# Altium integrated library Infineon RF & Wireless Control.IntLib: 329 symbols (part 3 of 11)
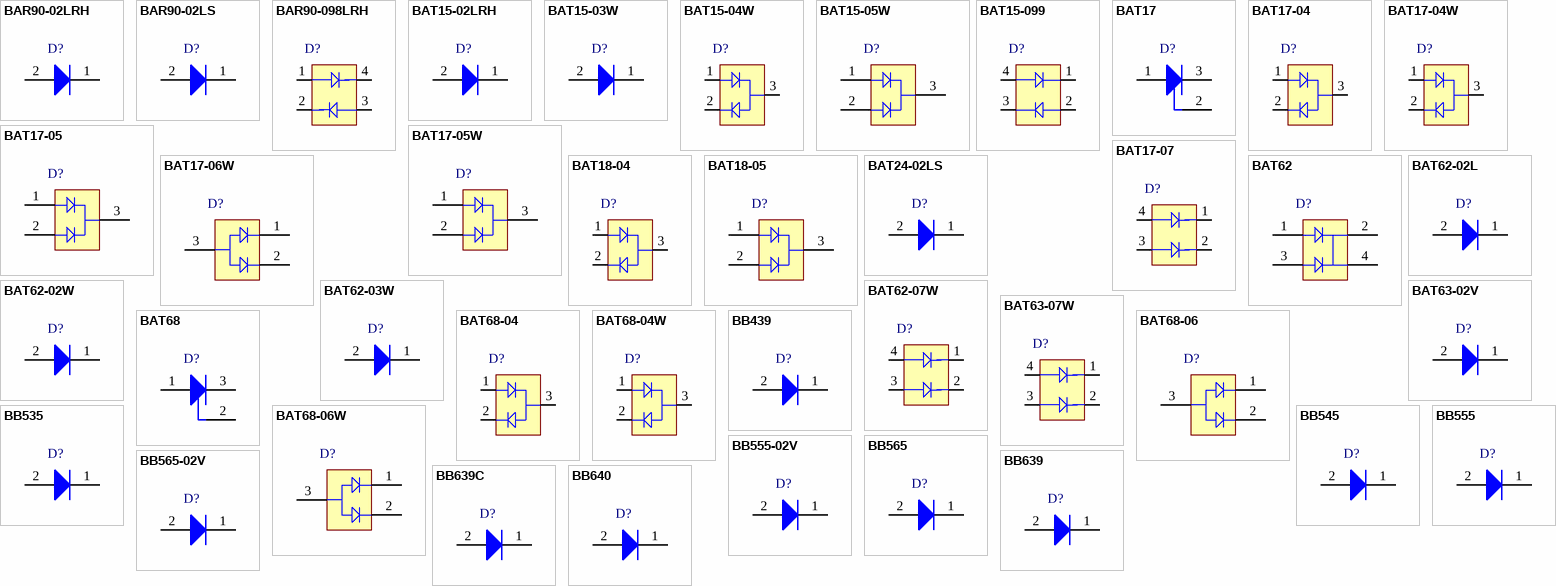
[diagram p11: symbols BAR90-02LRH to BB640]

## BB640
designator D?
Single Silicon Variable Capacitance Diode, 20 mA IF Max, SOD323, Green; Manufacturer: Infineon; PartNumber: BB640; CT / CT: 16.6 (2/25V); CT1 (typ): 69 pF; CT2 (typ): 54.5 pF; Green: yes; IF (max): 20 mA; DatasheetVersion: Jun-2011; PackageReference: SOD323; PackageDescription: 2-Pin Small Outline Diode Package, 1.25 x 1.7 mm Body; Supplier 1: Mouser; Supplier Part Number 1: N/A; Configuration: Single; Mounting Technology: Surface Mount; ComponentLink1Description: Manufacturer URL; ComponentLink1URL: http://www.infineon.com/; ComponentLink2Description: Datasheet; ComponentLink2URL: http://www.infineon.com/dgdl/bb640series.pdf?folderId=db3a304313d846880113d98def1d0130&fileId=db3a304313d846880113d9d5b10c0172&location=en.Products.RF.RF_Varactor_Diodes.UHF_and_VHF_Tuner.DATASHEET.bb640series.pdf; ComponentLink3Description: Package Specification; ComponentLink3URL: http://www.infineon.com/dgdl/SOD323-Package_Overview.pdf?folderId=db3a30431936bc4b011952aab84f3bbe&fileId=db3a30431936bc4b011952beed653be3
footprint INF-SOD323_V (SOD, 2-Leads, Body 1.7x1.25 mm)
pins: 1 K, 2 A

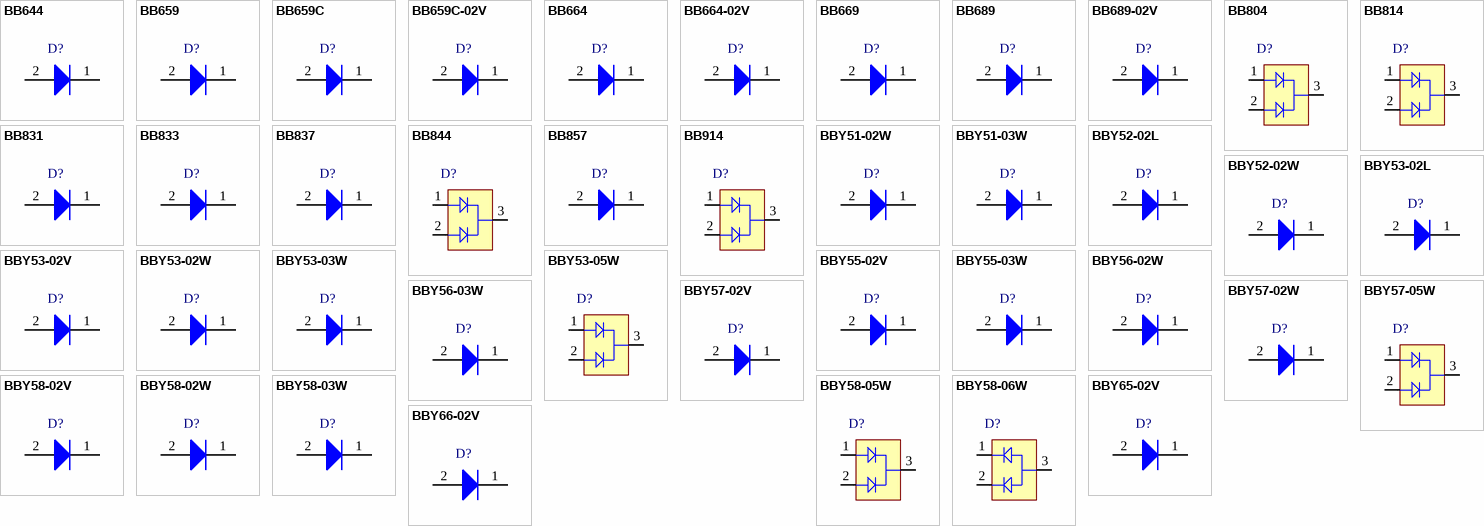
[diagram p2: symbols BB644 to BBY66-02V]

## BB644
designator D?
Single Silicon Variable Capacitance Diode, 20 mA IF Max, SOD323, Green; Manufacturer: Infineon; PartNumber: BB644; CT / CT: 11.8 (2/25V); CT1 (typ): 41.8 pF; CT2 (typ): 31.85 pF; Green: yes; IF (max): 20 mA; DatasheetVersion: Jun-2011; PackageReference: SOD323; PackageDescription: 2-Pin Small Outline Diode Package, 1.25 x 1.7 mm Body; Supplier 1: Mouser; Supplier Part Number 1: N/A; Configuration: Single; Mounting Technology: Surface Mount; ComponentLink1Description: Manufacturer URL; ComponentLink1URL: http://www.infineon.com/; ComponentLink2Description: Datasheet; ComponentLink2URL: http://www.infineon.com/dgdl/bb644_bb664series.pdf?folderId=db3a304313d846880113d98def1d0130&fileId=db3a304313d846880113d9db6c720176&location=en.Products.RF.RF_Varactor_Diodes.UHF_and_VHF_Tuner.DATASHEET.bb644_bb664series.pdf; ComponentLink3Description: Package Specification; ComponentLink3URL: http://www.infineon.com/dgdl/SOD323-Package_Overview.pdf?folderId=db3a30431936bc4b011952aab84f3bbe&fileId=db3a30431936bc4b011952beed653be3
footprint INF-SOD323_V (SOD, 2-Leads, Body 1.7x1.25 mm)
pins: 1 K, 2 A

## BB659
designator D?
Single Silicon Variable Capacitance Diode, 20 mA IF Max, SCD80, Green; Manufacturer: Infineon; PartNumber: BB659; CT / CT: 14.7(1/28V); CT1 (typ): 38.3 pF; CT2 (typ): 29.75 pF; Green: yes; IF (max): 20 mA; DatasheetVersion: Jun-2011; PackageReference: SCD80; PackageDescription: 2-Pin Semiconductor Diode Package, 0.8 x 1.3 mm Body; Supplier 1: Mouser; Supplier Part Number 1: N/A; Configuration: Single; Halogen-free: yes; Mounting Technology: Surface Mount; ComponentLink1Description: Manufacturer URL; ComponentLink1URL: http://www.infineon.com/; ComponentLink2Description: Datasheet; ComponentLink2URL: http://www.infineon.com/dgdl/bb639_bb659series.pdf?folderId=db3a304313d846880113d98def1d0130&fileId=db3a304313d846880113d9bc2d2e015e&location=en.Products.RF.RF_Varactor_Diodes.UHF_and_VHF_Tuner.DATASHEET.bb639_bb659series.pdf; ComponentLink3Description: Package Specification; ComponentLink3URL: http://www.infineon.com/dgdl/SCD80-Package_Overview.pdf?folderId=db3a30431936bc4b0119526bd5c83b5c&fileId=db3a30431936bc4b0119528065a43b7a
footprint INF-SCD80_V (SCD80, 2-Leads, Body 0.8x1.3 mm)
pins: 1 K, 2 A

## BB659C
designator D?
Single Silicon Variable Capacitance Diode, 20 mA IF Max, SCD80, Green; Manufacturer: Infineon; PartNumber: BB659C; CT / CT: 15.3(1/28V); CT1 (typ): 39 pF; CT2 (typ): 30.2 pF; Green: yes; IF (max): 20 mA; DatasheetVersion: Jun-2011; PackageReference: SCD80; PackageDescription: 2-Pin Semiconductor Diode Package, 0.8 x 1.3 mm Body; Supplier 1: Mouser; Supplier Part Number 1: N/A; Configuration: Single; Halogen-free: yes; Mounting Technology: Surface Mount; ComponentLink1Description: Manufacturer URL; ComponentLink1URL: http://www.infineon.com/; ComponentLink2Description: Datasheet; ComponentLink2URL: http://www.infineon.com/dgdl/bb639c_bb659cseries.pdf?folderId=db3a304313d846880113d98def1d0130&fileId=db3a304313d846880113d9c5cacc0166&location=en.Products.RF.RF_Varactor_Diodes.UHF_and_VHF_Tuner.DATASHEET.bb639c_bb659cseries.pdf; ComponentLink3Description: Package Specification; ComponentLink3URL: http://www.infineon.com/dgdl/SCD80-Package_Overview.pdf?folderId=db3a30431936bc4b0119526bd5c83b5c&fileId=db3a30431936bc4b0119528065a43b7a
footprint INF-SCD80_V (SCD80, 2-Leads, Body 0.8x1.3 mm)
pins: 1 K, 2 A

## BB659C-02V
designator D?
Single Silicon Variable Capacitance Diode, 20 mA IF Max, SC79, Green; Manufacturer: Infineon; PartNumber: BB659C-02V; CT / CT: 15.3 (1/28V); CT1 (typ): 39 pF; CT2 (typ): 30.2 pF; Green: yes; IF (max): 20 mA; DatasheetVersion: Jun-2011; PackageReference: SC79; PackageDescription: 2-Pin Semiconductor Package, 0.8 x 1.2 mm Body; Supplier 1: Mouser; Supplier Part Number 1: N/A; Configuration: Single; Halogen-free: yes; Mounting Technology: Surface Mount; ComponentLink1Description: Manufacturer URL; ComponentLink1URL: http://www.infineon.com/; ComponentLink2Description: Datasheet; ComponentLink2URL: http://www.infineon.com/dgdl/bb639c_bb659cseries.pdf?folderId=db3a304313d846880113d98def1d0130&fileId=db3a304313d846880113d9c5cacc0166&location=en.Products.RF.RF_Varactor_Diodes.UHF_and_VHF_Tuner.DATASHEET.bb639c_bb659cseries.pdf; ComponentLink3Description: Package Specification; ComponentLink3URL: http://www.infineon.com/dgdl/SC79-Package_Overview.pdf?folderId=db3a30431936bc4b011951fbddb03b15&fileId=db3a30431936bc4b01195226fe583b41
footprint INF-SC79_V (SC79, 2-Leads, Body 1.2x0.8 mm)
pins: 1 K, 2 A

## BB664
designator D?
Single Silicon Variable Capacitance Diode, 20 mA IF Max, SCD80, Green; Manufacturer: Infineon; PartNumber: BB664; CT / CT: 11.8 (2/25V); CT1 (typ): 41.8 pF; CT2 (typ): 31.85 pF; Green: yes; IF (max): 20 mA; DatasheetVersion: Jun-2011; PackageReference: SCD80; PackageDescription: 2-Pin Semiconductor Diode Package, 0.8 x 1.3 mm Body; Supplier 1: Mouser; Supplier Part Number 1: N/A; Configuration: Single; Halogen-free: yes; Mounting Technology: Surface Mount; ComponentLink1Description: Manufacturer URL; ComponentLink1URL: http://www.infineon.com/; ComponentLink2Description: Datasheet; ComponentLink2URL: http://www.infineon.com/dgdl/bb644_bb664series.pdf?folderId=db3a304313d846880113d98def1d0130&fileId=db3a304313d846880113d9db6c720176&location=en.Products.RF.RF_Varactor_Diodes.UHF_and_VHF_Tuner.DATASHEET.bb644_bb664series.pdf; ComponentLink3Description: Package Specification; ComponentLink3URL: http://www.infineon.com/dgdl/SCD80-Package_Overview.pdf?folderId=db3a30431936bc4b0119526bd5c83b5c&fileId=db3a30431936bc4b0119528065a43b7a
footprint INF-SCD80_V (SCD80, 2-Leads, Body 0.8x1.3 mm)
pins: 1 K, 2 A

## BB664-02V
designator D?
Single Silicon Variable Capacitance Diode, 20 mA IF Max, SC79, Green; Manufacturer: Infineon; PartNumber: BB664-02V; CT / CT: 16.4 (1 / 28V); CT1 (typ): 41.8 pF; CT2 (typ): 31.85 pF; Green: yes; IF (max): 20 mA; DatasheetVersion: Jun-2011; PackageReference: SC79; PackageDescription: 2-Pin Semiconductor Package, 0.8 x 1.2 mm Body; Supplier 1: Mouser; Supplier Part Number 1: N/A; Configuration: Single; Halogen-free: yes; Mounting Technology: Surface Mount; ComponentLink1Description: Manufacturer URL; ComponentLink1URL: http://www.infineon.com/; ComponentLink2Description: Datasheet; ComponentLink2URL: http://www.infineon.com/dgdl/bb644_bb664series.pdf?folderId=db3a304313d846880113d98def1d0130&fileId=db3a304313d846880113d9db6c720176&location=en.Products.RF.RF_Varactor_Diodes.UHF_and_VHF_Tuner.DATASHEET.bb644_bb664series.pdf; ComponentLink3Description: Package Specification; ComponentLink3URL: http://www.infineon.com/dgdl/SC79-Package_Overview.pdf?folderId=db3a30431936bc4b011951fbddb03b15&fileId=db3a30431936bc4b01195226fe583b41
footprint INF-SC79_V (SC79, 2-Leads, Body 1.2x0.8 mm)
pins: 1 K, 2 A

## BB669
designator D?
Single Silicon Tuning Diode, 20 mA IF Max, SOD323, Green; Manufacturer: Infineon; PartNumber: BB669; CT / CT: 15.5 (2/25V); CT1 (typ): 56.5 pF; CT2 (typ): 43.4 pF; Green: yes; IF (max): 20 mA; DatasheetVersion: Jun-2011; PackageReference: SOD323; PackageDescription: 2-Pin Small Outline Diode Package, 1.25 x 1.7 mm Body; Supplier 1: Mouser; Supplier Part Number 1: N/A; Configuration: Single; Mounting Technology: Surface Mount; ComponentLink1Description: Manufacturer URL; ComponentLink1URL: http://www.infineon.com/; ComponentLink2Description: Datasheet; ComponentLink2URL: http://www.infineon.com/dgdl/bb669_bb689series.pdf?folderId=db3a304313d846880113d98def1d0130&fileId=db3a304313d846880113dd9db9820270&location=en.Products.RF.RF_Varactor_Diodes.UHF_and_VHF_Tuner.DATASHEET.bb669_bb689series.pdf; ComponentLink3Description: Package Specification; ComponentLink3URL: http://www.infineon.com/dgdl/SOD323-Package_Overview.pdf?folderId=db3a30431936bc4b011952aab84f3bbe&fileId=db3a30431936bc4b011952beed653be3
footprint INF-SOD323_V (SOD, 2-Leads, Body 1.7x1.25 mm)
pins: 1 K, 2 A

## BB689
designator D?
Single Silicon Tuning Diode, 20 mA IF Max, SCD80, Green; Manufacturer: Infineon; PartNumber: BB689; CT / CT: 15.5 (2/25V); CT1 (typ): 56.5 pF; CT2 (typ): 43.4 pF; Green: yes; IF (max): 20 mA; DatasheetVersion: Jun-2011; PackageReference: SCD80; PackageDescription: 2-Pin Semiconductor Diode Package, 0.8 x 1.3 mm Body; Supplier 1: Mouser; Supplier Part Number 1: N/A; Configuration: Single; Halogen-free: yes; Mounting Technology: Surface Mount; ComponentLink1Description: Manufacturer URL; ComponentLink1URL: http://www.infineon.com/; ComponentLink2Description: Datasheet; ComponentLink2URL: http://www.infineon.com/dgdl/bb669_bb689series.pdf?folderId=db3a304313d846880113d98def1d0130&fileId=db3a304313d846880113dd9db9820270&location=en.Products.RF.RF_Varactor_Diodes.UHF_and_VHF_Tuner.DATASHEET.bb669_bb689series.pdf; ComponentLink3Description: Package Specification; ComponentLink3URL: http://www.infineon.com/dgdl/SCD80-Package_Overview.pdf?folderId=db3a30431936bc4b0119526bd5c83b5c&fileId=db3a30431936bc4b0119528065a43b7a
footprint INF-SCD80_V (SCD80, 2-Leads, Body 0.8x1.3 mm)
pins: 1 K, 2 A

## BB689-02V
designator D?
Single Silicon Tuning Diode, 20 mA IF Max, SC79, Green; Manufacturer: Infineon; PartNumber: BB689-02V; CT / CT: 15.5 (2/25V); CT1 (typ): 56.5 pF; CT2 (typ): 43.4 pF; Green: yes; IF (max): 20 mA; DatasheetVersion: Jun-2011; PackageReference: SC79; PackageDescription: 2-Pin Semiconductor Package, 0.8 x 1.2 mm Body; Supplier 1: Mouser; Supplier Part Number 1: N/A; Configuration: Single; Halogen-free: yes; Mounting Technology: Surface Mount; ComponentLink1Description: Manufacturer URL; ComponentLink1URL: http://www.infineon.com/; ComponentLink2Description: Datasheet; ComponentLink2URL: http://www.infineon.com/dgdl/bb669_bb689series.pdf?folderId=db3a304313d846880113d98def1d0130&fileId=db3a304313d846880113dd9db9820270&location=en.Products.RF.RF_Varactor_Diodes.UHF_and_VHF_Tuner.DATASHEET.bb669_bb689series.pdf; ComponentLink3Description: Package Specification; ComponentLink3URL: http://www.infineon.com/dgdl/SC79-Package_Overview.pdf?folderId=db3a30431936bc4b011951fbddb03b15&fileId=db3a30431936bc4b01195226fe583b41
footprint INF-SC79_V (SC79, 2-Leads, Body 1.2x0.8 mm)
pins: 1 K, 2 A

## BB804
designator D?
Dual Silicon Variable Capacitance Diode, 50 mA IF Max, SOT23, Green; Manufacturer: Infineon; PartNumber: BB804; CT (max): 47.5 pF; CT / CT: 1.71 (2/8V); CT2 (typ): 27.9 pF; Green: yes; IF (max): 50 mA; DatasheetVersion: Jun-2011; PackageReference: SOT23; PackageDescription: 3-Pin Small Outline Transistor Package, 1.3 x 2.9 mm Body, 0.95 mm Pitch; Supplier 1: Mouser; Supplier Part Number 1: N/A; Configuration: Dual; CT1 (typ): 47.5 pF; Mounting Technology: Surface Mount; ComponentLink1Description: Manufacturer URL; ComponentLink1URL: http://www.infineon.com/; ComponentLink2Description: Datasheet; ComponentLink2URL: http://www.infineon.com/dgdl/bb804series.pdf?folderId=db3a30431400ef680114267375cf0615&fileId=db3a30431400ef6801142674e18e061a&location=en.Products.RF.RF_Varactor_Diodes.FM_Tuner.DATASHEET.bb804series.pdf; ComponentLink3Description: Package Specification; ComponentLink3URL: http://www.infineon.com/dgdl/SOT23-Package_Overview.pdf?folderId=db3a30431936bc4b0119532290053c66&fileId=db3a30431936bc4b0119533468123c85
footprint INF-SOT23_N (SOT23, 3-Leads, Body 2.9x1.3 mm, Pitch 0.95 mm, IPC Medium Density)
footprint INF-SOT23_L (SOT23, 3-Leads, Body 2.9x1.3 mm, Pitch 0.95 mm, IPC High Density)
footprint INF-SOT23_M (SOT23, 3-Leads, Body 2.9x1.3 mm, Pitch 0.95 mm, IPC Low Density)
pins: 1 A1, 2 A2, 3 K

## BB814
designator D?
Dual Silicon Variable Capacitance Diode, 50 mA IF Max, SOT23, Green; Manufacturer: Infineon; PartNumber: BB814; CT (max): 44.75 pF; CT / CT: 2.15 (2/8V); CT2 (typ): 20.8 pF; Green: yes; IF (max): 50 mA; DatasheetVersion: Jun-2011; PackageReference: SOT23; PackageDescription: 3-Pin Small Outline Transistor Package, 1.3 x 2.9 mm Body, 0.95 mm Pitch; Supplier 1: Mouser; Supplier Part Number 1: N/A; Configuration: Dual; CT1 (typ): 44.75 pF; Mounting Technology: Surface Mount; ComponentLink1Description: Manufacturer URL; ComponentLink1URL: http://www.infineon.com/; ComponentLink2Description: Datasheet; ComponentLink2URL: http://www.infineon.com/dgdl/bb814series.pdf?folderId=db3a30431400ef680114267375cf0615&fileId=db3a304314dca389011527effe3e11da&location=en.Products.RF.RF_Varactor_Diodes.FM_Tuner.DATASHEET.bb814series.pdf; ComponentLink3Description: Package Specification; ComponentLink3URL: http://www.infineon.com/dgdl/SOT23-Package_Overview.pdf?folderId=db3a30431936bc4b0119532290053c66&fileId=db3a30431936bc4b0119533468123c85
footprint INF-SOT23_N (SOT23, 3-Leads, Body 2.9x1.3 mm, Pitch 0.95 mm, IPC Medium Density)
footprint INF-SOT23_L (SOT23, 3-Leads, Body 2.9x1.3 mm, Pitch 0.95 mm, IPC High Density)
footprint INF-SOT23_M (SOT23, 3-Leads, Body 2.9x1.3 mm, Pitch 0.95 mm, IPC Low Density)
pins: 1 A1, 2 A2, 3 K

## BB831
designator D?
Single Silicon Variable Capacitance Diode, 20 mA IF Max, SOD323, Green; Manufacturer: Infineon; PartNumber: BB831; CT / CT: 8.6 (1/28V); CT1 (typ): 8.8 pF; Green: yes; IF (max): 20 mA; DatasheetVersion: Jun-2011; PackageReference: SOD323; PackageDescription: 2-Pin Small Outline Diode Package, 1.25 x 1.7 mm Body; Supplier 1: Mouser; Supplier Part Number 1: N/A; Configuration: Single; Mounting Technology: Surface Mount; ComponentLink1Description: Manufacturer URL; ComponentLink1URL: http://www.infineon.com/; ComponentLink2Description: Datasheet; ComponentLink2URL: http://www.infineon.com/dgdl/bb831series.pdf?folderId=db3a304313d846880113d94414f400fc&fileId=db3a304313d846880113d94727a300ff&location=en.Products.RF.RF_Varactor_Diodes.SAT_Tuner.DATASHEET.bb831series.pdf; ComponentLink3Description: Package Specification; ComponentLink3URL: http://www.infineon.com/dgdl/SOD323-Package_Overview.pdf?folderId=db3a30431936bc4b011952aab84f3bbe&fileId=db3a30431936bc4b011952beed653be3
footprint INF-SOD323_V (SOD, 2-Leads, Body 1.7x1.25 mm)
pins: 1 K, 2 A

## BB833
designator D?
Single Silicon Tuning Diode, 20 mA IF Max, SOD323, Green; Manufacturer: Infineon; PartNumber: BB833; CT / CT: 12.4 (1/28V); CT1 (typ): 9.3 pF; Green: yes; IF (max): 20 mA; DatasheetVersion: Jun-2011; PackageReference: SOD323; PackageDescription: 2-Pin Small Outline Diode Package, 1.25 x 1.7 mm Body; Supplier 1: Mouser; Supplier Part Number 1: N/A; Configuration: Single; Mounting Technology: Surface Mount; ComponentLink1Description: Manufacturer URL; ComponentLink1URL: http://www.infineon.com/; ComponentLink2Description: Datasheet; ComponentLink2URL: http://www.infineon.com/dgdl/bb833series.pdf?folderId=db3a304313d846880113d94414f400fc&fileId=db3a304313d846880113d969a38b0112&location=en.Products.RF.RF_Varactor_Diodes.SAT_Tuner.DATASHEET.bb833series.pdf; ComponentLink3Description: Package Specification; ComponentLink3URL: http://www.infineon.com/dgdl/SOD323-Package_Overview.pdf?folderId=db3a30431936bc4b011952aab84f3bbe&fileId=db3a30431936bc4b011952beed653be3
footprint INF-SOD323_V (SOD, 2-Leads, Body 1.7x1.25 mm)
pins: 1 K, 2 A

## BB837
designator D?
Single Silicon Tuning Diode, 20 mA IF Max, SOD323, Green; Manufacturer: Infineon; PartNumber: BB837; CT / CT: 12.7 (1/28V); CT1 (typ): 6.6 pF; Green: yes; IF (max): 20 mA; DatasheetVersion: Jun-2011; PackageReference: SOD323; PackageDescription: 2-Pin Small Outline Diode Package, 1.25 x 1.7 mm Body; Supplier 1: Mouser; Supplier Part Number 1: N/A; Configuration: Single; Mounting Technology: Surface Mount; ComponentLink1Description: Manufacturer URL; ComponentLink1URL: http://www.infineon.com/; ComponentLink2Description: Datasheet; ComponentLink2URL: http://www.infineon.com/dgdl/bb837_bb857series.pdf?folderId=db3a304313d846880113d94414f400fc&fileId=db3a304313d846880113d97339a9011a&location=en.Products.RF.RF_Varactor_Diodes.SAT_Tuner.DATASHEET.bb837_bb857series.pdf; ComponentLink3Description: Package Specification; ComponentLink3URL: http://www.infineon.com/dgdl/SOD323-Package_Overview.pdf?folderId=db3a30431936bc4b011952aab84f3bbe&fileId=db3a30431936bc4b011952beed653be3
footprint INF-SOD323_V (SOD, 2-Leads, Body 1.7x1.25 mm)
pins: 1 K, 2 A

## BB844
designator D?
Single Silicon Variable Capacitance Diode, 50 mA IF Max, SOT23, Green; Manufacturer: Infineon; PartNumber: BB844; CT (max): 43.75 pF; CT / CT: 3.8 (2/8V); CT2 (typ): 11.7 pF; Green: yes; IF (max): 50 mA; DatasheetVersion: Jun-2011; PackageReference: SOT23; PackageDescription: 3-Pin Small Outline Transistor Package, 1.3 x 2.9 mm Body, 0.95 mm Pitch; Supplier 1: Mouser; Supplier Part Number 1: N/A; Configuration: Single; CT1 (typ): 43.75 pF; Mounting Technology: Surface Mount; ComponentLink1Description: Manufacturer URL; ComponentLink1URL: http://www.infineon.com/; ComponentLink2Description: Datasheet; ComponentLink2URL: http://www.infineon.com/dgdl/bb844series.pdf?folderId=db3a30431400ef680114267375cf0615&fileId=db3a30431be39b97011be4a058c80036&location=en.Products.RF.RF_Varactor_Diodes.FM_Tuner.DATASHEET.bb844series.pdf; ComponentLink3Description: Package Specification; ComponentLink3URL: http://www.infineon.com/dgdl/SOT23-Package_Overview.pdf?folderId=db3a30431936bc4b0119532290053c66&fileId=db3a30431936bc4b0119533468123c85
footprint INF-SOT23_N (SOT23, 3-Leads, Body 2.9x1.3 mm, Pitch 0.95 mm, IPC Medium Density)
footprint INF-SOT23_L (SOT23, 3-Leads, Body 2.9x1.3 mm, Pitch 0.95 mm, IPC High Density)
footprint INF-SOT23_M (SOT23, 3-Leads, Body 2.9x1.3 mm, Pitch 0.95 mm, IPC Low Density)
pins: 1 A1, 2 A2, 3 K

## BB857
designator D?
Single Silicon Tuning Diode, 20 mA IF Max, SCD80, Green; Manufacturer: Infineon; PartNumber: BB857; CT / CT: 12.7 (1/28V); CT1 (typ): 6.6 pF; Green: yes; IF (max): 20 mA; DatasheetVersion: Jun-2011; PackageReference: SCD80; PackageDescription: 2-Pin Semiconductor Diode Package, 0.8 x 1.3 mm Body; Supplier 1: Mouser; Supplier Part Number 1: N/A; Configuration: Single; Halogen-free: yes; Mounting Technology: Surface Mount; ComponentLink1Description: Manufacturer URL; ComponentLink1URL: http://www.infineon.com/; ComponentLink2Description: Datasheet; ComponentLink2URL: http://www.infineon.com/dgdl/bb837_bb857series.pdf?folderId=db3a304313d846880113d94414f400fc&fileId=db3a304313d846880113d97339a9011a&location=en.Products.RF.RF_Varactor_Diodes.SAT_Tuner.DATASHEET.bb837_bb857series.pdf; ComponentLink3Description: Package Specification; ComponentLink3URL: http://www.infineon.com/dgdl/SCD80-Package_Overview.pdf?folderId=db3a30431936bc4b0119526bd5c83b5c&fileId=db3a30431936bc4b0119528065a43b7a
footprint INF-SCD80_V (SCD80, 2-Leads, Body 0.8x1.3 mm)
pins: 1 K, 2 A

## BB914
designator D?
Dual Silicon Variable Capacitance Diode, 50 mA IF Max, SOT23, Green; Manufacturer: Infineon; PartNumber: BB914; CT (max): 43.75 pF; CT / CT: 2.34 (2/8V); CT2 (typ): 18.7 pF; Green: yes; IF (max): 50 mA; DatasheetVersion: Jun-2011; PackageReference: SOT23; PackageDescription: 3-Pin Small Outline Transistor Package, 1.3 x 2.9 mm Body, 0.95 mm Pitch; Supplier 1: Mouser; Supplier Part Number 1: N/A; Configuration: Dual; CT1 (typ): 43.75 pF; Mounting Technology: Surface Mount; ComponentLink1Description: Manufacturer URL; ComponentLink1URL: http://www.infineon.com/; ComponentLink2Description: Datasheet; ComponentLink2URL: http://www.infineon.com/dgdl/bb914series.pdf?folderId=db3a30431400ef680114267375cf0615&fileId=db3a304314dca389011527f4231f11ec&location=en.Products.RF.RF_Varactor_Diodes.FM_Tuner.DATASHEET.bb914series.pdf; ComponentLink3Description: Package Specification; ComponentLink3URL: http://www.infineon.com/dgdl/SOT23-Package_Overview.pdf?folderId=db3a30431936bc4b0119532290053c66&fileId=db3a30431936bc4b0119533468123c85
footprint INF-SOT23_N (SOT23, 3-Leads, Body 2.9x1.3 mm, Pitch 0.95 mm, IPC Medium Density)
footprint INF-SOT23_L (SOT23, 3-Leads, Body 2.9x1.3 mm, Pitch 0.95 mm, IPC High Density)
footprint INF-SOT23_M (SOT23, 3-Leads, Body 2.9x1.3 mm, Pitch 0.95 mm, IPC Low Density)
pins: 1 A1, 2 A2, 3 K

## BBY51-02W
designator D?
Single Silicon Tuning Diode, 20 mA IF Max, SCD80, Green; Manufacturer: Infineon; PartNumber: BBY51-02W; CT / CT: 1.75 (1/4V); CT1 (typ): 5.4 pF; CT2 (typ): 4.2 pF; Green: yes; IF (max): 20 mA; DatasheetVersion: Jun-2011; PackageReference: SCD80; PackageDescription: 2-Pin Semiconductor Diode Package, 0.8 x 1.3 mm Body; Supplier 1: Mouser; Supplier Part Number 1: N/A; Configuration: Single; Halogen-free: yes; Mounting Technology: Surface Mount; ComponentLink1Description: Manufacturer URL; ComponentLink1URL: http://www.infineon.com/; ComponentLink2Description: Datasheet; ComponentLink2URL: http://www.infineon.com/dgdl/bby51series.pdf?folderId=db3a304313d846880113ddc160d402c0&fileId=db3a304313d846880113ddc3c72702c2&location=en.Products.RF.RF_Varactor_Diodes.VCO_and_Low_Voltage_Tuner.DATASHEET.bby51series.pdf; ComponentLink3Description: Package Specification; ComponentLink3URL: http://www.infineon.com/dgdl/SCD80-Package_Overview.pdf?folderId=db3a30431936bc4b0119526bd5c83b5c&fileId=db3a30431936bc4b0119528065a43b7a
footprint INF-SCD80_V (SCD80, 2-Leads, Body 0.8x1.3 mm)
pins: 1 K, 2 A

## BBY51-03W
designator D?
Single Silicon Tuning Diode, 20 mA IF Max, SOD323, Green; Manufacturer: Infineon; PartNumber: BBY51-03W; CT / CT: 1.75 (1/4V); CT1 (typ): 5.4 pF; CT2 (typ): 4.2 pF; Green: yes; IF (max): 20 mA; DatasheetVersion: Jun-2011; PackageReference: SOD323; PackageDescription: 2-Pin Small Outline Diode Package, 1.25 x 1.7 mm Body; Supplier 1: Mouser; Supplier Part Number 1: N/A; Configuration: Single; Mounting Technology: Surface Mount; ComponentLink1Description: Manufacturer URL; ComponentLink1URL: http://www.infineon.com/; ComponentLink2Description: Datasheet; ComponentLink2URL: http://www.infineon.com/dgdl/bby51series.pdf?folderId=db3a304313d846880113ddc160d402c0&fileId=db3a304313d846880113ddc3c72702c2&location=en.Products.RF.RF_Varactor_Diodes.VCO_and_Low_Voltage_Tuner.DATASHEET.bby51series.pdf; ComponentLink3Description: Package Specification; ComponentLink3URL: http://www.infineon.com/dgdl/SOD323-Package_Overview.pdf?folderId=db3a30431936bc4b011952aab84f3bbe&fileId=db3a30431936bc4b011952beed653be3
footprint INF-SOD323_V (SOD, 2-Leads, Body 1.7x1.25 mm)
pins: 1 K, 2 A

## BBY52-02L
designator D?
Single Silicon Tuning Diode, 20 mA IF Max, TSLP-2-1, Green; Manufacturer: Infineon; PartNumber: BBY52-02L; CT / CT: 1.6 (1/4V); CT1 (typ): 1.85 pF; CT2 (typ): 1.5 pF; Green: yes; IF (max): 20 mA; DatasheetVersion: Jun-2011; PackageReference: TSLP-2-1; PackageDescription: 2-Pin Thin Small Leadless Package, 0.6 x 1 mm Body; Supplier 1: Mouser; Supplier Part Number 1: N/A; Configuration: Single; Halogen-free: yes; Mounting Technology: Surface Mount; ComponentLink1Description: Manufacturer URL; ComponentLink1URL: http://www.infineon.com/; ComponentLink2Description: Datasheet; ComponentLink2URL: http://www.infineon.com/dgdl/bby52series.pdf?folderId=db3a304313d846880113ddc160d402c0&fileId=db3a304313d846880113dec9c12c0447&location=en.Products.RF.RF_Varactor_Diodes.VCO_and_Low_Voltage_Tuner.DATASHEET.bby52series.pdf; ComponentLink3Description: Package Specification; ComponentLink3URL: http://www.infineon.com/dgdl/TSLP-2-1-Package_Overview.pdf?folderId=db3a30431936bc4b011956a23bb2377c&fileId=db3a30431936bc4b011956b3e8c13795
footprint INF-TSLP-2-1_N (Chip2PinSM, 2-Leads, Body 1x0.6 mm, Pitch 0.65 mm, IPC Medium Density)
footprint INF-TSLP-2-1_L (Chip2PinSM, 2-Leads, Body 1x0.6 mm, Pitch 0.65 mm, IPC High Density)
footprint INF-TSLP-2-1_M (Chip2PinSM, 2-Leads, Body 1x0.6 mm, Pitch 0.65 mm, IPC Low Density)
pins: 1 K, 2 A

## BBY52-02W
designator D?
Single Silicon Tuning Diode, 20 mA IF Max, SCD80, Green; Manufacturer: Infineon; PartNumber: BBY52-02W; CT / CT: 1.6 (1/4V); CT1 (typ): 1.85 pF; CT2 (typ): 1.5 pF; Green: yes; IF (max): 20 mA; DatasheetVersion: Jun-2011; PackageReference: SCD80; PackageDescription: 2-Pin Semiconductor Diode Package, 0.8 x 1.3 mm Body; Supplier 1: Mouser; Supplier Part Number 1: N/A; Configuration: Single; Halogen-free: yes; Mounting Technology: Surface Mount; ComponentLink1Description: Manufacturer URL; ComponentLink1URL: http://www.infineon.com/; ComponentLink2Description: Datasheet; ComponentLink2URL: http://www.infineon.com/dgdl/bby52series.pdf?folderId=db3a304313d846880113ddc160d402c0&fileId=db3a304313d846880113dec9c12c0447&location=en.Products.RF.RF_Varactor_Diodes.VCO_and_Low_Voltage_Tuner.DATASHEET.bby52series.pdf; ComponentLink3Description: Package Specification; ComponentLink3URL: http://www.infineon.com/dgdl/SCD80-Package_Overview.pdf?folderId=db3a30431936bc4b0119526bd5c83b5c&fileId=db3a30431936bc4b0119528065a43b7a
footprint INF-SCD80_V (SCD80, 2-Leads, Body 0.8x1.3 mm)
pins: 1 K, 2 A

## BBY53-02L
designator D?
Single Silicon Tuning Diode, 20 mA IF Max, TSLP-2-1, Green; Manufacturer: Infineon; PartNumber: BBY53-02L; CT / CT: 2.2 (1/3V); CT1 (typ): 5.3 pF; CT2 (typ): 2.4 pF; Green: yes; IF (max): 20 mA; DatasheetVersion: Jun-2011; PackageReference: TSLP-2-1; PackageDescription: 2-Pin Thin Small Leadless Package, 0.6 x 1 mm Body; Supplier 1: Mouser; Supplier Part Number 1: N/A; Configuration: Single; Halogen-free: yes; Mounting Technology: Surface Mount; ComponentLink1Description: Manufacturer URL; ComponentLink1URL: http://www.infineon.com/; ComponentLink2Description: Datasheet; ComponentLink2URL: http://www.infineon.com/dgdl/bby53series.pdf?folderId=db3a304313d846880113ddc160d402c0&fileId=db3a304313d846880113de2cd6e2030f&location=en.Products.RF.RF_Varactor_Diodes.VCO_and_Low_Voltage_Tuner.DATASHEET.bby53series.pdf; ComponentLink3Description: Package Specification; ComponentLink3URL: http://www.infineon.com/dgdl/TSLP-2-1-Package_Overview.pdf?folderId=db3a30431936bc4b011956a23bb2377c&fileId=db3a30431936bc4b011956b3e8c13795
footprint INF-TSLP-2-1_N (Chip2PinSM, 2-Leads, Body 1x0.6 mm, Pitch 0.65 mm, IPC Medium Density)
footprint INF-TSLP-2-1_L (Chip2PinSM, 2-Leads, Body 1x0.6 mm, Pitch 0.65 mm, IPC High Density)
footprint INF-TSLP-2-1_M (Chip2PinSM, 2-Leads, Body 1x0.6 mm, Pitch 0.65 mm, IPC Low Density)
pins: 1 K, 2 A

## BBY53-02V
designator D?
Single Silicon Tuning Diode, 20 mA IF Max, SC79, Green; Manufacturer: Infineon; PartNumber: BBY53-02V; CT / CT: 2.2 (1/3V); CT1 (typ): 5.3 pF; CT2 (typ): 2.4 pF; Green: yes; IF (max): 20 mA; DatasheetVersion: Jun-2011; PackageReference: SC79; PackageDescription: 2-Pin Semiconductor Package, 0.8 x 1.2 mm Body; Supplier 1: Mouser; Supplier Part Number 1: N/A; Configuration: Single; Halogen-free: yes; Mounting Technology: Surface Mount; ComponentLink1Description: Manufacturer URL; ComponentLink1URL: http://www.infineon.com/; ComponentLink2Description: Datasheet; ComponentLink2URL: http://www.infineon.com/dgdl/bby53series.pdf?folderId=db3a304313d846880113ddc160d402c0&fileId=db3a304313d846880113de2cd6e2030f&location=en.Products.RF.RF_Varactor_Diodes.VCO_and_Low_Voltage_Tuner.DATASHEET.bby53series.pdf; ComponentLink3Description: Package Specification; ComponentLink3URL: http://www.infineon.com/dgdl/SC79-Package_Overview.pdf?folderId=db3a30431936bc4b011951fbddb03b15&fileId=db3a30431936bc4b01195226fe583b41
footprint INF-SC79_V (SC79, 2-Leads, Body 1.2x0.8 mm)
pins: 1 K, 2 A

## BBY53-02W
designator D?
Single Silicon Tuning Diode, 20 mA IF Max, SCD80, Green; Manufacturer: Infineon; PartNumber: BBY53-02W; CT / CT: 2.2 (1/3V); CT1 (typ): 5.3 pF; CT2 (typ): 2.4 pF; Green: yes; IF (max): 20 mA; DatasheetVersion: Jun-2011; PackageReference: SCD80; PackageDescription: 2-Pin Semiconductor Diode Package, 0.8 x 1.3 mm Body; Supplier 1: Mouser; Supplier Part Number 1: N/A; Configuration: Single; Halogen-free: yes; Mounting Technology: Surface Mount; ComponentLink1Description: Manufacturer URL; ComponentLink1URL: http://www.infineon.com/; ComponentLink2Description: Datasheet; ComponentLink2URL: http://www.infineon.com/dgdl/bby53series.pdf?folderId=db3a304313d846880113ddc160d402c0&fileId=db3a304313d846880113de2cd6e2030f&location=en.Products.RF.RF_Varactor_Diodes.VCO_and_Low_Voltage_Tuner.DATASHEET.bby53series.pdf; ComponentLink3Description: Package Specification; ComponentLink3URL: http://www.infineon.com/dgdl/SCD80-Package_Overview.pdf?folderId=db3a30431936bc4b0119526bd5c83b5c&fileId=db3a30431936bc4b0119528065a43b7a
footprint INF-SCD80_V (SCD80, 2-Leads, Body 0.8x1.3 mm)
pins: 1 K, 2 A

## BBY53-03W
designator D?
Single Silicon Tuning Diode, 20 mA IF Max, SOD323, Green; Manufacturer: Infineon; PartNumber: BBY53-03W; CT / CT: 2.2 (1/3V); CT1 (typ): 5.3 pF; CT2 (typ): 2.4 pF; Green: yes; IF (max): 20 mA; DatasheetVersion: Jun-2011; PackageReference: SOD323; PackageDescription: 2-Pin Small Outline Diode Package, 1.25 x 1.7 mm Body; Supplier 1: Mouser; Supplier Part Number 1: N/A; Configuration: Single; Mounting Technology: Surface Mount; ComponentLink1Description: Manufacturer URL; ComponentLink1URL: http://www.infineon.com/; ComponentLink2Description: Datasheet; ComponentLink2URL: http://www.infineon.com/dgdl/bby53series.pdf?folderId=db3a304313d846880113ddc160d402c0&fileId=db3a304313d846880113de2cd6e2030f&location=en.Products.RF.RF_Varactor_Diodes.VCO_and_Low_Voltage_Tuner.DATASHEET.bby53series.pdf; ComponentLink3Description: Package Specification; ComponentLink3URL: http://www.infineon.com/dgdl/SOD323-Package_Overview.pdf?folderId=db3a30431936bc4b011952aab84f3bbe&fileId=db3a30431936bc4b011952beed653be3
footprint INF-SOD323_V (SOD, 2-Leads, Body 1.7x1.25 mm)
pins: 1 K, 2 A

## BBY53-05W
designator D?
Dual Silicon Tuning Diode, 20 mA IF Max, SOT323, Green; Manufacturer: Infineon; PartNumber: BBY53-05W; CT / CT: 2.2 (1/3V); CT1 (typ): 5.3 pF; CT2 (typ): 2.4 pF; Green: yes; IF (max): 20 mA; DatasheetVersion: Jun-2011; PackageReference: SOT323; PackageDescription: 3-Pin Small Outline Transistor Package, 1.25 x 2 mm Body, 0.65 mm Pitch; Supplier 1: Mouser; Supplier Part Number 1: N/A; Configuration: Dual; Halogen-free: yes; Mounting Technology: Surface Mount; ComponentLink1Description: Manufacturer URL; ComponentLink1URL: http://www.infineon.com/; ComponentLink2Description: Datasheet; ComponentLink2URL: http://www.infineon.com/dgdl/bby53series.pdf?folderId=db3a304313d846880113ddc160d402c0&fileId=db3a304313d846880113de2cd6e2030f&location=en.Products.RF.RF_Varactor_Diodes.VCO_and_Low_Voltage_Tuner.DATASHEET.bby53series.pdf; ComponentLink3Description: Package Specification; ComponentLink3URL: http://www.infineon.com/dgdl/SOT323-Package_Overview.pdf?folderId=db3a30431936bc4b0119533e1dcb3c92&fileId=db3a30431936bc4b011953495f283cb1
footprint INF-SOT323_N (SOT23, 3-Leads, Body 2x1.25 mm, Pitch 0.65 mm, IPC Medium Density)
footprint INF-SOT323_L (SOT23, 3-Leads, Body 2x1.25 mm, Pitch 0.65 mm, IPC High Density)
footprint INF-SOT323_M (SOT23, 3-Leads, Body 2x1.25 mm, Pitch 0.65 mm, IPC Low Density)
pins: 1 A1, 2 A2, 3 K

## BBY55-02V
designator D?
Single Silicon Tuning Diode, 20 mA IF Max, SC79, Green; Manufacturer: Infineon; PartNumber: BBY55-02V; CT / CT: 2.5 (2/10V); CT1 (typ): 18.6 pF; CT2 (typ): 15 pF; Green: yes; IF (max): 20 mA; DatasheetVersion: Jun-2011; PackageReference: SC79; PackageDescription: 2-Pin Semiconductor Package, 0.8 x 1.2 mm Body; Supplier 1: Mouser; Supplier Part Number 1: N/A; Configuration: Single; Halogen-free: yes; Mounting Technology: Surface Mount; ComponentLink1Description: Manufacturer URL; ComponentLink1URL: http://www.infineon.com/; ComponentLink2Description: Datasheet; ComponentLink2URL: http://www.infineon.com/dgdl/bby55series.pdf?folderId=db3a304313d846880113ddc160d402c0&fileId=db3a304313d846880113de4094ea0326&location=en.Products.RF.RF_Varactor_Diodes.VCO_and_Low_Voltage_Tuner.DATASHEET.bby55series.pdf; ComponentLink3Description: Package Specification; ComponentLink3URL: http://www.infineon.com/dgdl/SC79-Package_Overview.pdf?folderId=db3a30431936bc4b011951fbddb03b15&fileId=db3a30431936bc4b01195226fe583b41
footprint INF-SC79_V (SC79, 2-Leads, Body 1.2x0.8 mm)
pins: 1 K, 2 A

## BBY55-03W
designator D?
Single Silicon Tuning Diode, 20 mA IF Max, SOD323, Green; Manufacturer: Infineon; PartNumber: BBY55-03W; CT / CT: 2.5 (2/10V); CT1 (typ): 18.6 pF; CT2 (typ): 15 pF; Green: yes; IF (max): 20 mA; DatasheetVersion: Jun-2011; PackageReference: SOD323; PackageDescription: 2-Pin Small Outline Diode Package, 1.25 x 1.7 mm Body; Supplier 1: Mouser; Supplier Part Number 1: N/A; Configuration: Single; Mounting Technology: Surface Mount; ComponentLink1Description: Manufacturer URL; ComponentLink1URL: http://www.infineon.com/; ComponentLink2Description: Datasheet; ComponentLink2URL: http://www.infineon.com/dgdl/bby55series.pdf?folderId=db3a304313d846880113ddc160d402c0&fileId=db3a304313d846880113de4094ea0326&location=en.Products.RF.RF_Varactor_Diodes.VCO_and_Low_Voltage_Tuner.DATASHEET.bby55series.pdf; ComponentLink3Description: Package Specification; ComponentLink3URL: http://www.infineon.com/dgdl/SOD323-Package_Overview.pdf?folderId=db3a30431936bc4b011952aab84f3bbe&fileId=db3a30431936bc4b011952beed653be3
footprint INF-SOD323_V (SOD, 2-Leads, Body 1.7x1.25 mm)
pins: 1 K, 2 A

## BBY56-02W
designator D?
Single Silicon Tuning Diode, 20 mA IF Max, SCD80, Green; Manufacturer: Infineon; PartNumber: BBY56-02W; CT / CT: 2.53 (1/3); CT1 (typ): 40 pF; CT2 (typ): 23.5 pF; Green: yes; IF (max): 20 mA; DatasheetVersion: Jun-2011; PackageReference: SCD80; PackageDescription: 2-Pin Semiconductor Diode Package, 0.8 x 1.3 mm Body; Supplier 1: Mouser; Supplier Part Number 1: N/A; Configuration: Single; Halogen-free: yes; Mounting Technology: Surface Mount; ComponentLink1Description: Manufacturer URL; ComponentLink1URL: http://www.infineon.com/; ComponentLink2Description: Datasheet; ComponentLink2URL: http://www.infineon.com/dgdl/bby56series.pdf?folderId=db3a304313d846880113ddc160d402c0&fileId=db3a304313d846880113de4922f30333&location=en.Products.RF.RF_Varactor_Diodes.VCO_and_Low_Voltage_Tuner.DATASHEET.bby56series.pdf; ComponentLink3Description: Package Specification; ComponentLink3URL: http://www.infineon.com/dgdl/SCD80-Package_Overview.pdf?folderId=db3a30431936bc4b0119526bd5c83b5c&fileId=db3a30431936bc4b0119528065a43b7a
footprint INF-SCD80_V (SCD80, 2-Leads, Body 0.8x1.3 mm)
pins: 1 K, 2 A

## BBY56-03W
designator D?
Single Silicon Tuning Diode, 20 mA IF Max, SOD323, Green; Manufacturer: Infineon; PartNumber: BBY56-03W; CT / CT: 2.2 (1/3V); CT1 (typ): 5.3 pF; CT2 (typ): 2.4 pF; Green: yes; IF (max): 20 mA; DatasheetVersion: Jun-2011; PackageReference: SOD323; PackageDescription: 2-Pin Small Outline Diode Package, 1.25 x 1.7 mm Body; Supplier 1: Mouser; Supplier Part Number 1: N/A; Configuration: Single; Mounting Technology: Surface Mount; ComponentLink1Description: Manufacturer URL; ComponentLink1URL: http://www.infineon.com/; ComponentLink2Description: Datasheet; ComponentLink2URL: http://www.infineon.com/dgdl/bby56series.pdf?folderId=db3a304313d846880113ddc160d402c0&fileId=db3a304313d846880113de4922f30333&location=en.Products.RF.RF_Varactor_Diodes.VCO_and_Low_Voltage_Tuner.DATASHEET.bby56series.pdf; ComponentLink3Description: Package Specification; ComponentLink3URL: http://www.infineon.com/dgdl/SOD323-Package_Overview.pdf?folderId=db3a30431936bc4b011952aab84f3bbe&fileId=db3a30431936bc4b011952beed653be3
footprint INF-SOD323_V (SOD, 2-Leads, Body 1.7x1.25 mm)
pins: 1 K, 2 A

## BBY57-02V
designator D?
Single Silicon Tuning Diode, 20 mA IF Max, SC79, Green; Manufacturer: Infineon; PartNumber: BBY57-02V; CT / CT: 2.45 (1/3V); CT1 (typ): 17.5 pF; CT2 (typ): 8 pF; Green: yes; IF (max): 20 mA; DatasheetVersion: Apr-2007; PackageReference: SC79; PackageDescription: 2-Pin Semiconductor Package, 0.8 x 1.2 mm Body; Supplier 1: Mouser; Supplier Part Number 1: N/A; Configuration: Single; Halogen-free: yes; Mounting Technology: Surface Mount; ComponentLink1Description: Manufacturer URL; ComponentLink1URL: http://www.infineon.com/; ComponentLink2Description: Datasheet; ComponentLink2URL: http://www.infineon.com/dgdl/bby57series.pdf?folderId=db3a304313d846880113ddc160d402c0&fileId=db3a304313d846880113de4dfd070341&location=en.Products.RF.RF_Varactor_Diodes.VCO_and_Low_Voltage_Tuner.DATASHEET.bby57series.pdf; ComponentLink3Description: Package Specification; ComponentLink3URL: http://www.infineon.com/dgdl/SC79-Package_Overview.pdf?folderId=db3a30431936bc4b011951fbddb03b15&fileId=db3a30431936bc4b01195226fe583b41
footprint INF-SC79_V (SC79, 2-Leads, Body 1.2x0.8 mm)
pins: 1 K, 2 A

## BBY57-02W
designator D?
Single Silicon Tuning Diode, 20 mA IF Max, SCD80, Green; Manufacturer: Infineon; PartNumber: BBY57-02W; CT / CT: 2.45 (1/3V); CT1 (typ): 17.5 pF; CT2 (typ): 9 pF; Green: yes; IF (max): 20 mA; DatasheetVersion: Apr-2007; PackageReference: SCD80; PackageDescription: 2-Pin Semiconductor Diode Package, 0.8 x 1.3 mm Body; Supplier 1: Mouser; Supplier Part Number 1: N/A; Configuration: Single; Halogen-free: yes; Mounting Technology: Surface Mount; ComponentLink1Description: Manufacturer URL; ComponentLink1URL: http://www.infineon.com/; ComponentLink2Description: Datasheet; ComponentLink2URL: http://www.infineon.com/dgdl/bby57series.pdf?folderId=db3a304313d846880113ddc160d402c0&fileId=db3a304313d846880113de4dfd070341&location=en.Products.RF.RF_Varactor_Diodes.VCO_and_Low_Voltage_Tuner.DATASHEET.bby57series.pdf; ComponentLink3Description: Package Specification; ComponentLink3URL: http://www.infineon.com/dgdl/SCD80-Package_Overview.pdf?folderId=db3a30431936bc4b0119526bd5c83b5c&fileId=db3a30431936bc4b0119528065a43b7a
footprint INF-SCD80_V (SCD80, 2-Leads, Body 0.8x1.3 mm)
pins: 1 K, 2 A

## BBY57-05W
designator D?
Dual Silicon Tuning Diode, 20 mA IF Max, SOT323, Green; Manufacturer: Infineon; PartNumber: BBY57-05W; CT / CT: 2.45 (1/3V); CT1 (typ): 17.5 pF; CT2 (typ): 10 pF; Green: yes; IF (max): 20 mA; DatasheetVersion: Apr-2007; PackageReference: SOT323; PackageDescription: 3-Pin Small Outline Transistor Package, 1.25 x 2 mm Body, 0.65 mm Pitch; Supplier 1: Mouser; Supplier Part Number 1: N/A; Configuration: Dual; Halogen-free: yes; Mounting Technology: Surface Mount; ComponentLink1Description: Manufacturer URL; ComponentLink1URL: http://www.infineon.com/; ComponentLink2Description: Datasheet; ComponentLink2URL: http://www.infineon.com/dgdl/bby57series.pdf?folderId=db3a304313d846880113ddc160d402c0&fileId=db3a304313d846880113de4dfd070341&location=en.Products.RF.RF_Varactor_Diodes.VCO_and_Low_Voltage_Tuner.DATASHEET.bby57series.pdf; ComponentLink3Description: Package Specification; ComponentLink3URL: http://www.infineon.com/dgdl/SOT323-Package_Overview.pdf?folderId=db3a30431936bc4b0119533e1dcb3c92&fileId=db3a30431936bc4b011953495f283cb1
footprint INF-SOT323_N (SOT23, 3-Leads, Body 2x1.25 mm, Pitch 0.65 mm, IPC Medium Density)
footprint INF-SOT323_L (SOT23, 3-Leads, Body 2x1.25 mm, Pitch 0.65 mm, IPC High Density)
footprint INF-SOT323_M (SOT23, 3-Leads, Body 2x1.25 mm, Pitch 0.65 mm, IPC Low Density)
pins: 1 A1, 2 A2, 3 K

## BBY58-02V
designator D?
Single Silicon Tuning Diode, 20 mA IF Max, SC79, Green; Manufacturer: Infineon; PartNumber: BBY58-02V; CT / CT: 2.15 (1/3V); CT1 (typ): 18.3 pF; CT2 (typ): 12.35 pF; Green: yes; IF (max): 20 mA; DatasheetVersion: Sep-2007; PackageReference: SC79; PackageDescription: 2-Pin Semiconductor Package, 0.8 x 1.2 mm Body; Supplier 1: Mouser; Supplier Part Number 1: N/A; Configuration: Single; Halogen-free: yes; Mounting Technology: Surface Mount; ComponentLink1Description: Manufacturer URL; ComponentLink1URL: http://www.infineon.com/; ComponentLink2Description: Datasheet; ComponentLink2URL: http://www.infineon.com/dgdl/bby58series.pdf?folderId=db3a304313d846880113ddc160d402c0&fileId=db3a304313d846880113de6d4a720386&location=en.Products.RF.RF_Varactor_Diodes.VCO_and_Low_Voltage_Tuner.DATASHEET.bby58series.pdf; ComponentLink3Description: Package Specification; ComponentLink3URL: http://www.infineon.com/dgdl/SC79-Package_Overview.pdf?folderId=db3a30431936bc4b011951fbddb03b15&fileId=db3a30431936bc4b01195226fe583b41
footprint INF-SC79_V (SC79, 2-Leads, Body 1.2x0.8 mm)
pins: 1 K, 2 A

## BBY58-02W
designator D?
Single Silicon Tuning Diode, 20 mA IF Max, SCD80, Green; Manufacturer: Infineon; PartNumber: BBY58-02W; CT / CT: 2.15 (1/3V); CT1 (typ): 18.3 pF; CT2 (typ): 12.35 pF; Green: yes; IF (max): 20 mA; DatasheetVersion: Sep-2007; PackageReference: SCD80; PackageDescription: 2-Pin Semiconductor Diode Package, 0.8 x 1.3 mm Body; Supplier 1: Mouser; Supplier Part Number 1: N/A; Configuration: Single; Halogen-free: yes; Mounting Technology: Surface Mount; ComponentLink1Description: Manufacturer URL; ComponentLink1URL: http://www.infineon.com/; ComponentLink2Description: Datasheet; ComponentLink2URL: http://www.infineon.com/dgdl/bby58series.pdf?folderId=db3a304313d846880113ddc160d402c0&fileId=db3a304313d846880113de6d4a720386&location=en.Products.RF.RF_Varactor_Diodes.VCO_and_Low_Voltage_Tuner.DATASHEET.bby58series.pdf; ComponentLink3Description: Package Specification; ComponentLink3URL: http://www.infineon.com/dgdl/SCD80-Package_Overview.pdf?folderId=db3a30431936bc4b0119526bd5c83b5c&fileId=db3a30431936bc4b0119528065a43b7a
footprint INF-SCD80_V (SCD80, 2-Leads, Body 0.8x1.3 mm)
pins: 1 K, 2 A

## BBY58-03W
designator D?
Single Silicon Tuning Diode, 20 mA IF Max, SOD323, Green; Manufacturer: Infineon; PartNumber: BBY58-03W; CT / CT: 2.15 (1/3V); CT1 (typ): 18.3 pF; CT2 (typ): 12.35 pF; Green: yes; IF (max): 20 mA; DatasheetVersion: Sep-2007; PackageReference: SOD323; PackageDescription: 2-Pin Small Outline Diode Package, 1.25 x 1.7 mm Body; Supplier 1: Mouser; Supplier Part Number 1: N/A; Configuration: Single; Mounting Technology: Surface Mount; ComponentLink1Description: Manufacturer URL; ComponentLink1URL: http://www.infineon.com/; ComponentLink2Description: Datasheet; ComponentLink2URL: http://www.infineon.com/dgdl/bby58series.pdf?folderId=db3a304313d846880113ddc160d402c0&fileId=db3a304313d846880113de6d4a720386&location=en.Products.RF.RF_Varactor_Diodes.VCO_and_Low_Voltage_Tuner.DATASHEET.bby58series.pdf; ComponentLink3Description: Package Specification; ComponentLink3URL: http://www.infineon.com/dgdl/SOD323-Package_Overview.pdf?folderId=db3a30431936bc4b011952aab84f3bbe&fileId=db3a30431936bc4b011952beed653be3
footprint INF-SOD323_V (SOD, 2-Leads, Body 1.7x1.25 mm)
pins: 1 K, 2 A

## BBY58-05W
designator D?
Dual Silicon Tuning Diode, 20 mA IF Max, SOT323, Green; Manufacturer: Infineon; PartNumber: BBY58-05W; CT / CT: 2.15 (1/3V); CT1 (typ): 18.3 pF; CT2 (typ): 12.35 pF; Green: yes; IF (max): 20 mA; DatasheetVersion: Sep-2007; PackageReference: SOT323; PackageDescription: 3-Pin Small Outline Transistor Package, 1.25 x 2 mm Body, 0.65 mm Pitch; Supplier 1: Mouser; Supplier Part Number 1: N/A; Configuration: Dual; Halogen-free: yes; Mounting Technology: Surface Mount; ComponentLink1Description: Manufacturer URL; ComponentLink1URL: http://www.infineon.com/; ComponentLink2Description: Datasheet; ComponentLink2URL: http://www.infineon.com/dgdl/bby58series.pdf?folderId=db3a304313d846880113ddc160d402c0&fileId=db3a304313d846880113de6d4a720386&location=en.Products.RF.RF_Varactor_Diodes.VCO_and_Low_Voltage_Tuner.DATASHEET.bby58series.pdf; ComponentLink3Description: Package Specification; ComponentLink3URL: http://www.infineon.com/dgdl/SOT323-Package_Overview.pdf?folderId=db3a30431936bc4b0119533e1dcb3c92&fileId=db3a30431936bc4b011953495f283cb1
footprint INF-SOT323_N (SOT23, 3-Leads, Body 2x1.25 mm, Pitch 0.65 mm, IPC Medium Density)
footprint INF-SOT323_L (SOT23, 3-Leads, Body 2x1.25 mm, Pitch 0.65 mm, IPC High Density)
footprint INF-SOT323_M (SOT23, 3-Leads, Body 2x1.25 mm, Pitch 0.65 mm, IPC Low Density)
pins: 1 A1, 2 A2, 3 K

## BBY58-06W
designator D?
Dual Silicon Tuning Diode, 20 mA IF Max, SOT323, Green; Manufacturer: Infineon; PartNumber: BBY58-06W; CT / CT: 2.15 (1/3V); CT1 (typ): 18.3 pF; CT2 (typ): 12.35 pF; Green: yes; IF (max): 20 mA; DatasheetVersion: Sep-2007; PackageReference: SOT323; PackageDescription: 3-Pin Small Outline Transistor Package, 1.25 x 2 mm Body, 0.65 mm Pitch; Supplier 1: Mouser; Supplier Part Number 1: N/A; Configuration: Dual; Halogen-free: yes; Mounting Technology: Surface Mount; ComponentLink1Description: Manufacturer URL; ComponentLink1URL: http://www.infineon.com/; ComponentLink2Description: Datasheet; ComponentLink2URL: http://www.infineon.com/dgdl/bby58series.pdf?folderId=db3a304313d846880113ddc160d402c0&fileId=db3a304313d846880113de6d4a720386&location=en.Products.RF.RF_Varactor_Diodes.VCO_and_Low_Voltage_Tuner.DATASHEET.bby58series.pdf; ComponentLink3Description: Package Specification; ComponentLink3URL: http://www.infineon.com/dgdl/SOT323-Package_Overview.pdf?folderId=db3a30431936bc4b0119533e1dcb3c92&fileId=db3a30431936bc4b011953495f283cb1
footprint INF-SOT323_N (SOT23, 3-Leads, Body 2x1.25 mm, Pitch 0.65 mm, IPC Medium Density)
footprint INF-SOT323_L (SOT23, 3-Leads, Body 2x1.25 mm, Pitch 0.65 mm, IPC High Density)
footprint INF-SOT323_M (SOT23, 3-Leads, Body 2x1.25 mm, Pitch 0.65 mm, IPC Low Density)
pins: 1 K1, 2 K2, 3 A

## BBY65-02V
designator D?
Single Silicon Tuning Diode, 50 mA IF Max, SC79, Green; Manufacturer: Infineon; PartNumber: BBY65-02V; CT / CT: 4.55 (1/3V); CT1 (typ): 20.25 pF; CT2 (typ): 9.8 pF; Green: yes; IF (max): 50 mA; DatasheetVersion: Jun-2011; PackageReference: SC79; PackageDescription: 2-Pin Semiconductor Package, 0.8 x 1.2 mm Body; Supplier 1: Mouser; Supplier Part Number 1: N/A; Configuration: Single; Halogen-free: yes; Mounting Technology: Surface Mount; ComponentLink1Description: Manufacturer URL; ComponentLink1URL: http://www.infineon.com/; ComponentLink2Description: Datasheet; ComponentLink2URL: http://www.infineon.com/dgdl/bby65series.pdf?folderId=db3a304313d846880113ddc160d402c0&fileId=db3a304313d846880113deb0006e03f6&location=en.Products.RF.RF_Varactor_Diodes.VCO_and_Low_Voltage_Tuner.DATASHEET.bby65series.pdf; ComponentLink3Description: Package Specification; ComponentLink3URL: http://www.infineon.com/dgdl/SC79-Package_Overview.pdf?folderId=db3a30431936bc4b011951fbddb03b15&fileId=db3a30431936bc4b01195226fe583b41
footprint INF-SC79_V (SC79, 2-Leads, Body 1.2x0.8 mm)
pins: 1 K, 2 A

## BBY66-02V
designator D?
Single Silicon Tuning Diode, 50 mA IF Max, SC79, Green; Manufacturer: Infineon; PartNumber: BBY66-02V; CT / CT: 5.41 (1/4.5V); CT1 (typ): 68.7 pF; CT2 (typ): 35.4 pF; Green: yes; IF (max): 50 mA; DatasheetVersion: Apr-2007; PackageReference: SC79; PackageDescription: 2-Pin Semiconductor Package, 0.8 x 1.2 mm Body; Configuration: Single; Halogen-free: yes; Mounting Technology: Surface Mount; ComponentLink1Description: Manufacturer URL; ComponentLink1URL: http://www.infineon.com/; ComponentLink2Description: Datasheet; ComponentLink2URL: http://www.infineon.com/dgdl/bby66series.pdf?folderId=db3a304313d846880113ddc160d402c0&fileId=db3a304313d846880113deb52d8e0400&location=en.Products.RF.RF_Varactor_Diodes.VCO_and_Low_Voltage_Tuner.DATASHEET.bby66series.pdf; ComponentLink3Description: Package Specification; ComponentLink3URL: http://www.infineon.com/dgdl/SC79-Package_Overview.pdf?folderId=db3a30431936bc4b011951fbddb03b15&fileId=db3a30431936bc4b01195226fe583b41
footprint INF-SC79_V (SC79, 2-Leads, Body 1.2x0.8 mm)
pins: 1 K, 2 A

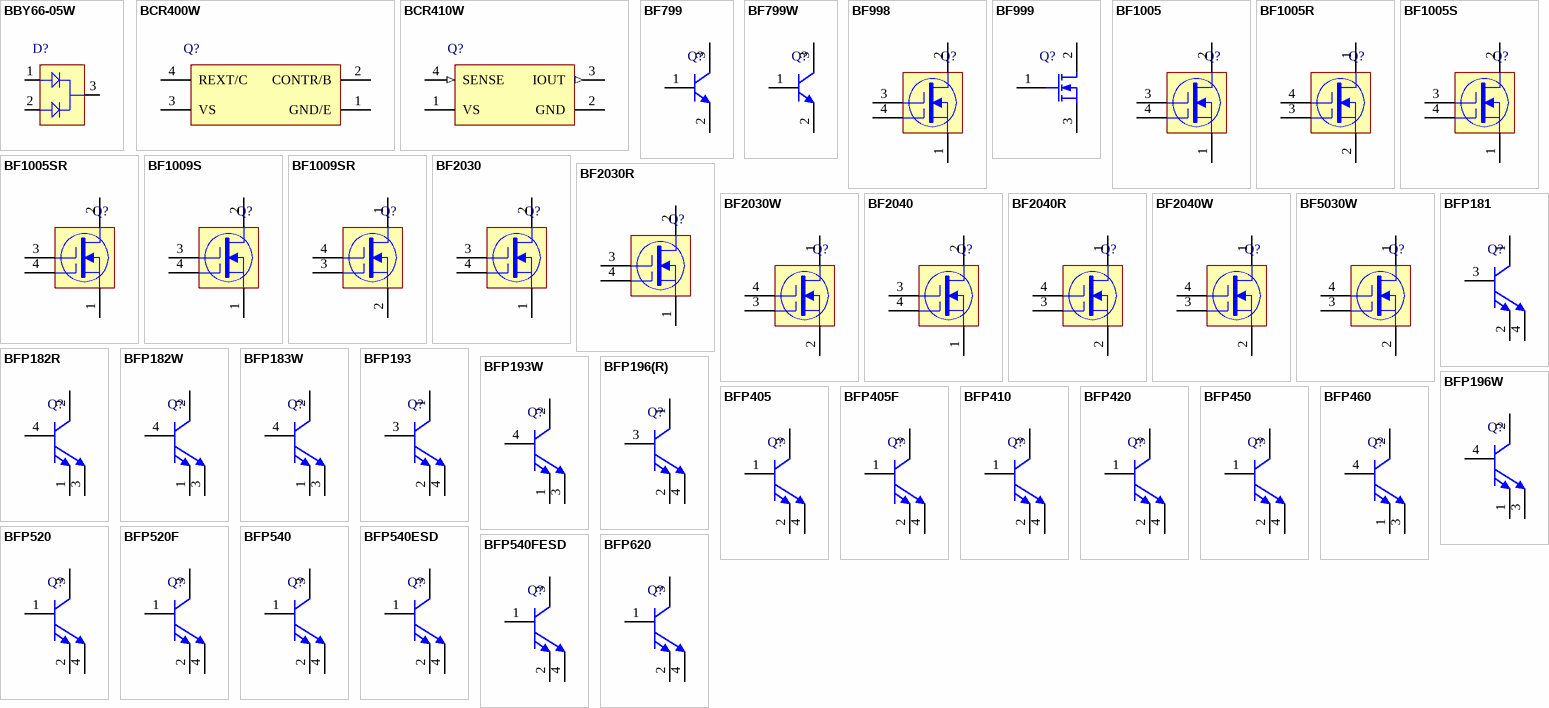
[diagram p3: symbols BBY66-05W to BFP620]

## BBY66-05W
designator D?
Dual Silicon Tuning Diode, 50 mA IF Max, SOT323, Green; Manufacturer: Infineon; PartNumber: BBY66-05W; CT / CT: 5.41 (1/4.5V); CT1 (typ): 68.7 pF; CT2 (typ): 35.4 pF; Green: yes; IF (max): 50 mA; DatasheetVersion: Apr-2007; PackageReference: SOT323; PackageDescription: 3-Pin Small Outline Transistor Package, 1.25 x 2 mm Body, 0.65 mm Pitch; Supplier 1: Mouser; Supplier Part Number 1: N/A; Configuration: Dual; Halogen-free: yes; Mounting Technology: Surface Mount; ComponentLink1Description: Manufacturer URL; ComponentLink1URL: http://www.infineon.com/; ComponentLink2Description: Datasheet; ComponentLink2URL: http://www.infineon.com/dgdl/bby66series.pdf?folderId=db3a304313d846880113ddc160d402c0&fileId=db3a304313d846880113deb52d8e0400&location=en.Products.RF.RF_Varactor_Diodes.VCO_and_Low_Voltage_Tuner.DATASHEET.bby66series.pdf; ComponentLink3Description: Package Specification; ComponentLink3URL: http://www.infineon.com/dgdl/SOT323-Package_Overview.pdf?folderId=db3a30431936bc4b0119533e1dcb3c92&fileId=db3a30431936bc4b011953495f283cb1
footprint INF-SOT323_N (SOT23, 3-Leads, Body 2x1.25 mm, Pitch 0.65 mm, IPC Medium Density)
footprint INF-SOT323_L (SOT23, 3-Leads, Body 2x1.25 mm, Pitch 0.65 mm, IPC High Density)
footprint INF-SOT323_M (SOT23, 3-Leads, Body 2x1.25 mm, Pitch 0.65 mm, IPC Low Density)
pins: 1 A1, 2 A2, 3 K